# Altium footprint library HOLE_SIZE_3mm.PcbLib: 1 footprints
Each footprint in its own frame and in the unit in brackets; x right, y up, seen from the top. Pads: shape width x height; smd on the part's side, far side on the other; paste and mask are expansions set on the pad; w line width, h text height; cw(c..) or ccw(c..) is an arc to the next point about the centre after c.
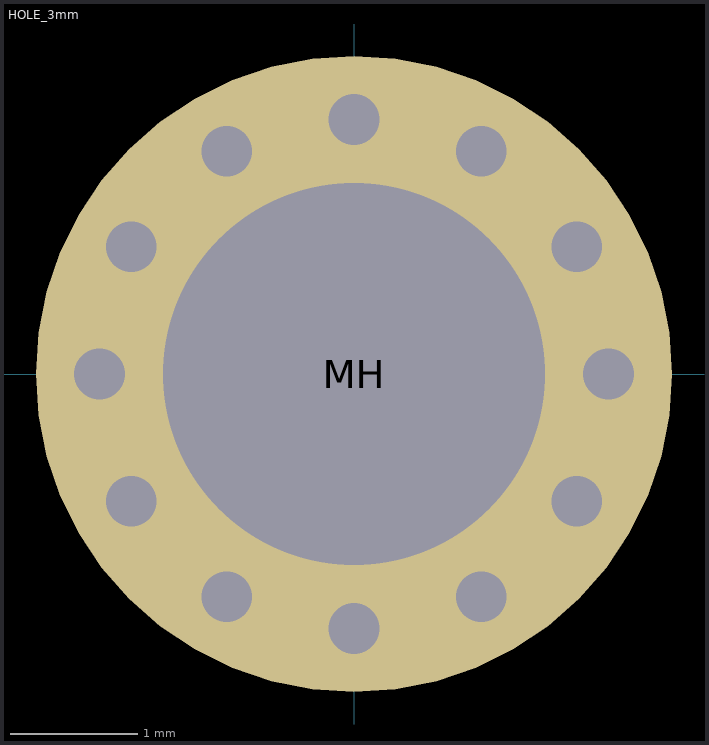
[diagram p0: the footprint, top view; thin cyan lines are the x and y axes]

## HOLE_3mm [mm]
pads (1):
  round 5 hole 3: MH(0,0)
via 0,2 diameter 0.6 hole 0.4
via -2,0 diameter 0.6 hole 0.4
via 2,0 diameter 0.6 hole 0.4
via 0,-2 diameter 0.6 hole 0.4
via 1,1.75 diameter 0.6 hole 0.4
via 1.75,1 diameter 0.6 hole 0.4
via -1,1.75 diameter 0.6 hole 0.4
via -1.75,1 diameter 0.6 hole 0.4
via 1.75,-1 diameter 0.6 hole 0.4
via 1,-1.75 diameter 0.6 hole 0.4
via -1,-1.75 diameter 0.6 hole 0.4
via -1.75,-1 diameter 0.6 hole 0.4